# EAGLE library part USB-VERTICAL (library zz-upenn)
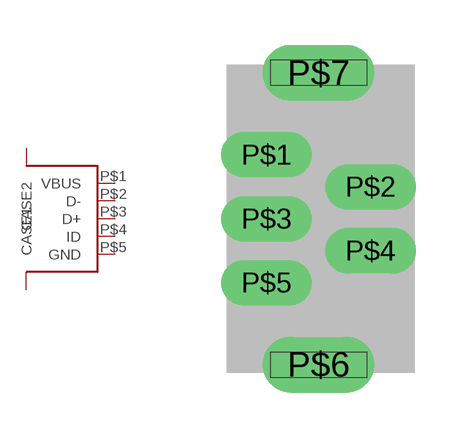
[diagram p11: symbol with the pads of USB-VERTICAL; footprint USB-VERTICAL]

Designator prefix -

## USB-VERTICAL  [USB-VERTICAL]
P$1  VBUS
P$2  D-
P$3  D+
P$4  ID
P$5  GND
P$6  CASE1
P$7  CASE2

## Footprint USB-VERTICAL (pad centres in mm)
drill 0.635 pad 0.914 long: P$1 0,1.6; P$3 0,0; P$5 0,-1.6
drill 0.635 pad 0.94 long: P$2 2.6,0.8; P$4 2.6,-0.8
drill 0.65 pad 1.4 long: P$6 1.3,-3.65; P$7 1.3,3.65